# EAGLE library part BLE113 (library sf-bluegiga)
Bluetooth Low Energy single-mode module - Bluetooth 4.0 (CC2541). BLE113-A variant has an on-module ceramic chip antenna. BLE113-A variant includes keepout/restrict area. Antenna edge of the module should be flush up against the edge of the PCB. See datasheet for variant layout details. The BLE113 is a Bluetooth Smart module targeted for small and low-power sensors and accessories. It integrates all features required for a Bluetooth Smart application, including Bluetooth radio, software stack, and GATT-based profiles. The BLE113 Bluetooth Smart module can also host end-user applications, which means no external micro controller is required in size or price constrained devices. Moreover, it has flexible hardware interfaces to connect to different peripherals and sensors and can be powered directly from a standard 3V coin cell battery or a pair of AAA batteries. In the lowest power sleep mode it merely consumes 500 nA and will wake up within a few hundred microseconds. The BLE113 Bluetooth Smart module conusmer approximately 30% less power and is smaller than the BLE112 Bluetooth Smart Module. http://www.bluegiga.com/en-US/products/bluetooth-4.0-modules/ble113-bluetooth--smart-module https://github.com/jrowberg/sf-oshw Last updated 2014-01-04 by Jeff Rowberg <jeff@rowberg.net>
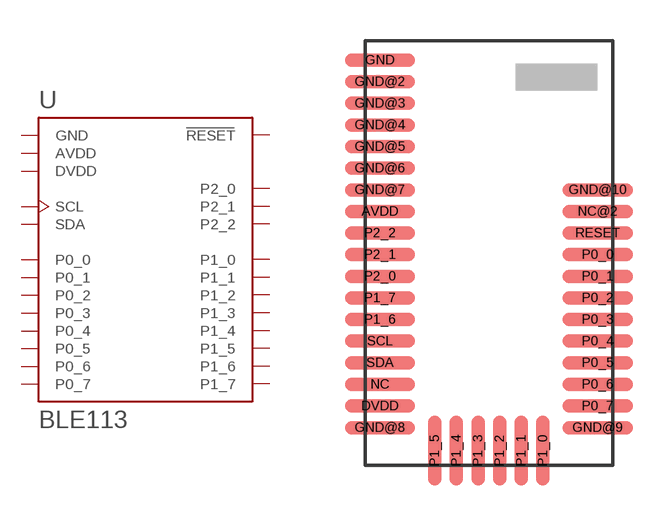
[diagram p0: symbol with the pads of BLE113-A; footprint BLE113-A]

Designator prefix U

## BLE113-A (ANTENNA: On-module ceramic chip antenna)  [BLE113-A]
AVDD  AVDD  pwr
DVDD  DVDD  pwr
GND  GND  pwr
GND@2  GND  pwr
GND@3  GND  pwr
GND@4  GND  pwr
GND@5  GND  pwr
GND@6  GND  pwr
GND@7  GND  pwr
GND@8  GND  pwr
GND@9  GND  pwr
GND@10  GND  pwr
P0_0  P0_0
P0_1  P0_1
P0_2  P0_2
P0_3  P0_3
P0_4  P0_4
P0_5  P0_5
P0_6  P0_6
P0_7  P0_7
P1_0  P1_0
P1_1  P1_1
P1_2  P1_2
P1_3  P1_3
P1_4  P1_4
P1_5  P1_5
P1_6  P1_6
P1_7  P1_7
P2_0  P2_0
P2_1  P2_1
P2_2  P2_2
RESET  RESET  in
SCL  SCL
SDA  SDA

## Footprint BLE113-A (pad centres in mm)
Bluetooth Low Energy single-mode module - Bluetooth 4.0 (CC2541). BLE113-A variant has an on-module ceramic chip antenna. BLE113-A variant includes keepout/restrict area. Antenna edge of the module should be flush up against the edge of the PCB. See datasheet for variant layout details. The BLE113 is a Bluetooth Smart module targeted for small and low-power sensors and accessories. It integrates all features required for a Bluetooth Smart application, including Bluetooth radio, software stack, and GATT-based profiles. The BLE113 Bluetooth Smart module can also host end-user applications, which means no external micro controller is required in size or price constrained devices. Moreover, it has flexible hardware interfaces to connect to different peripherals and sensors and can be powered directly from a standard 3V coin cell battery or a pair of AAA batteries. In the lowest power sleep mode it merely consumes 500 nA and will wake up within a few hundred microseconds. The BLE113 Bluetooth Smart module conusmer approximately 30% less power and is smaller than the BLE112 Bluetooth Smart Module. http://www.bluegiga.com/en-US/products/bluetooth-4.0-modules/ble113-bluetooth--smart-module https://github.com/jrowberg/sf-oshw Last updated 2014-01-04 by Jeff Rowberg <jeff@rowberg.net>
smd 2.6 x 0.5: AVDD -4.025,1.538; DVDD -4.025,-5.662; GND -4.025,7.138; GND@2 -4.025,6.338; GND@3 -4.025,5.537; GND@4 -4.025,4.737; GND@5 -4.025,3.938; GND@6 -4.025,3.138; GND@7 -4.025,2.337; GND@8 -4.025,-6.463; GND@9 4.025,-6.463; GND@10 4.025,2.337; NC -4.025,-4.862; NC@2 4.025,1.538; P0_0 4.025,-0.062; P0_1 4.025,-0.863; P0_2 4.025,-1.663; P0_3 4.025,-2.462; P0_4 4.025,-3.263; P0_5 4.025,-4.062; P0_6 4.025,-4.862; P0_7 4.025,-5.662; P1_6 -4.025,-2.462; P1_7 -4.025,-1.663; P2_0 -4.025,-0.863; P2_1 -4.025,-0.062; P2_2 -4.025,0.738; RESET 4.025,0.738; SCL -4.025,-3.263; SDA -4.025,-4.062
smd 0.5 x 2.6: P1_0 2,-7.312; P1_1 1.2,-7.312; P1_2 0.4,-7.312; P1_3 -0.4,-7.312; P1_4 -1.2,-7.312; P1_5 -2,-7.312